# Altium footprint library STMicroelectronics.PcbLib: 7 footprints
Each footprint in its own frame and in the unit in brackets; x right, y up, seen from the top. Pads: shape width x height; smd on the part's side, far side on the other; paste and mask are expansions set on the pad; w line width, h text height; cw(c..) or ccw(c..) is an arc to the next point about the centre after c.
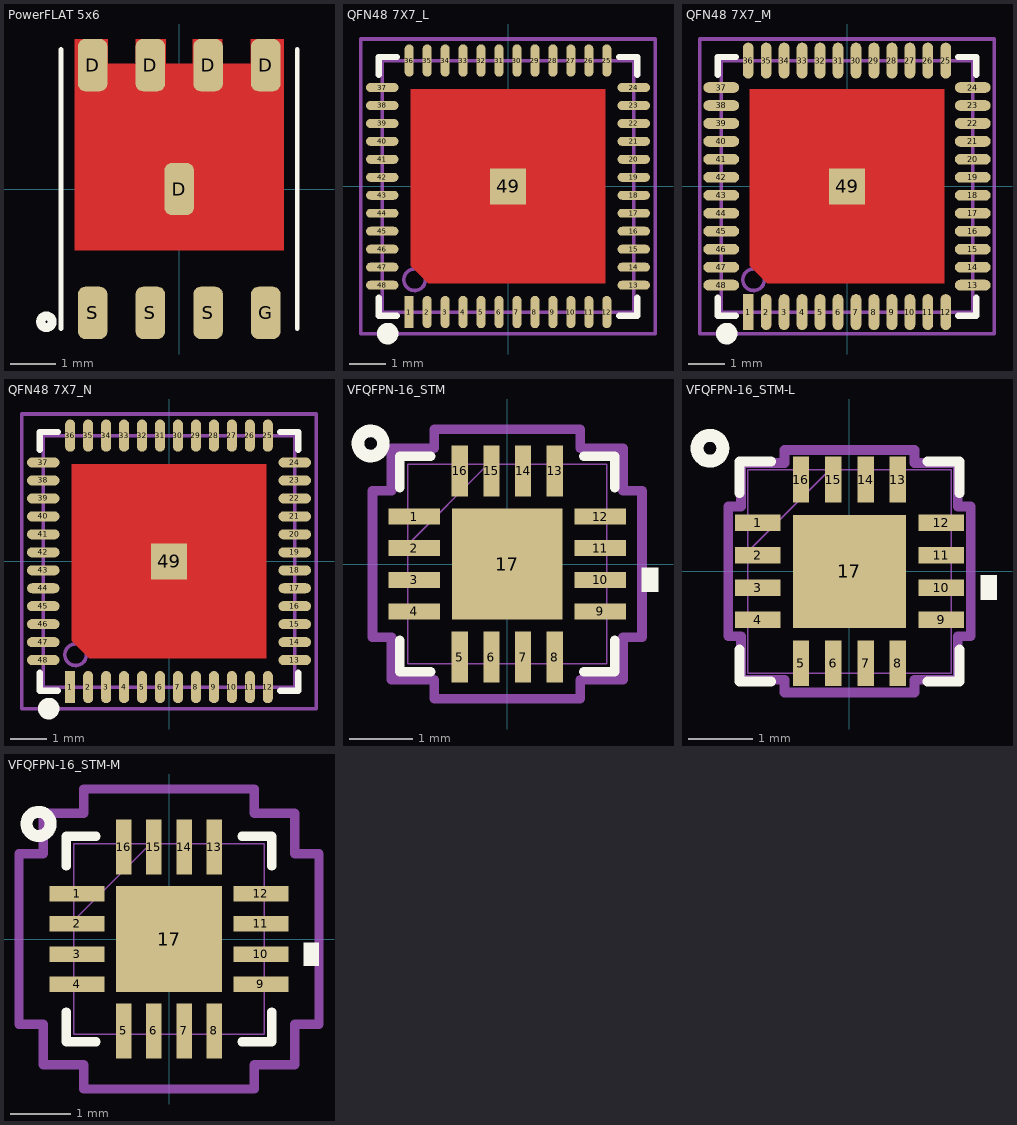
[diagram p0: the footprints below, top view; thin cyan lines are the x and y axes]

## PowerFLAT 5x6 [mm]
pads (9):
  rrect50% 0.65x1.15 smd: D(-1.905,2.725) D(-0.635,2.725) D(0,0) D(0.635,2.725) D(1.905,2.725) G(1.905,-2.725) S(-1.905,-2.725) S(-0.635,-2.725) S(0.635,-2.725)
Top Layer:
  region: -2.3,3.3 -2.3,-1.35 2.3,-1.35 2.3,3.3 1.575,3.3 1.575,2.75 0.95,2.75 0.95,3.3 0.3,3.3 0.3,2.75 -0.3,2.75 -0.3,3.3 -0.95,3.3 -0.95,2.75 -1.575,2.75 -1.575,3.3
Top Overlay:
  circle w0.2: c-2.921,-2.921 r0.127
  lines w0.1: -2.6,-3.075 -2.6,3.075 ; 2.6,-3.075 2.6,3.075
Top Solder:
  region: -2.3,3.3 -2.3,-1.35 2.3,-1.35 2.3,3.3 1.575,3.3 1.575,2.75 0.95,2.75 0.95,3.3 0.3,3.3 0.3,2.75 -0.3,2.75 -0.3,3.3 -0.95,3.3 -0.95,2.75 -1.575,2.75 -1.575,3.3
Mechanical 15:
  circle w0.05: c0,0 r0.35
  lines w0.05: -0.5,0 0.5,0 ; 0,-0.5 0,0.5
3D body "User Library-Power_Flat_5x6.STEP": height 0.95, standoff -0.04, extent -2.6,-3.075 2.6,3.075

## QFN48 7X7_L [mm] "48脚，长x宽x高：7x7x1mm，脚距：0.5mm"
pads (49):
  rect 0.25x0.9 smd: 1(-2.75,-3.5)
  oval 0.25x0.9 smd: 2(-2.25,-3.5) 3(-1.75,-3.5) 4(-1.25,-3.5) 5(-0.75,-3.5) 6(-0.25,-3.5) 7(0.25,-3.5) 8(0.75,-3.5) 9(1.25,-3.5) 10(1.75,-3.5) 11(2.25,-3.5) 12(2.75,-3.5) 25(2.75,3.5) 26(2.25,3.5) 27(1.75,3.5) 28(1.25,3.5) 29(0.75,3.5) 30(0.25,3.5) 31(-0.25,3.5) 32(-0.75,3.5) 33(-1.25,3.5) 34(-1.75,3.5) 35(-2.25,3.5) 36(-2.75,3.5)
  oval 0.9x0.25 smd: 13(3.5,-2.75) 14(3.5,-2.25) 15(3.5,-1.75) 16(3.5,-1.25) 17(3.5,-0.75) 18(3.5,-0.25) 19(3.5,0.25) 20(3.5,0.75) 21(3.5,1.25) 22(3.5,1.75) 23(3.5,2.25) 24(3.5,2.75) 37(-3.5,2.75) 38(-3.5,2.25) 39(-3.5,1.75) 40(-3.5,1.25) 41(-3.5,0.75) 42(-3.5,0.25) 43(-3.5,-0.25) 44(-3.5,-0.75) 45(-3.5,-1.25) 46(-3.5,-1.75) 47(-3.5,-2.25) 48(-3.5,-2.75)
  rect 1x1 smd mask+0.051: 49(0,0)
Top Layer:
  region: -2.7,2.7 2.7,2.7 2.7,-2.7 -2.214,-2.7 -2.7,-2.214
Top Overlay:
  circle w0.3: c-3.35,-4.1 r0.15
  lines w0.178: -3.6,-3.1 -3.6,-3.6 -3.1,-3.6 ; -3.6,3.1 -3.6,3.6 -3.1,3.6 ; 3.1,-3.6 3.6,-3.6 3.6,-3.1 ; 3.1,3.6 3.6,3.6 3.6,3.1
Mechanical 13:
  circle w0.1: c-2.6,-2.6 r0.3
  lines w0.1: -3.5,-3.5 3.5,-3.5 3.5,3.5 -3.5,3.5 -3.5,-3.5
Mechanical 15:
  circle w0.05: c0,0 r0.35
  lines w0.05: -0.5,0 0.5,0 ; 0,-0.5 0,0.5
  lines w0.1: -4.1,-4.1 -4.1,4.1 4.1,4.1 4.1,-4.1 -4.1,-4.1
3D body "QFN48-7X7.STEP": height 0.95, standoff -0.05, extent -3.51,-3.51 3.51,3.51

## QFN48 7X7_M [mm] "48脚，长x宽x高：7x7x1mm，脚距：0.5mm"
pads (49):
  rect 0.3x1 smd: 1(-2.75,-3.5)
  oval 0.3x1 smd: 2(-2.25,-3.5) 3(-1.75,-3.5) 4(-1.25,-3.5) 5(-0.75,-3.5) 6(-0.25,-3.5) 7(0.25,-3.5) 8(0.75,-3.5) 9(1.25,-3.5) 10(1.75,-3.5) 11(2.25,-3.5) 12(2.75,-3.5) 25(2.75,3.5) 26(2.25,3.5) 27(1.75,3.5) 28(1.25,3.5) 29(0.75,3.5) 30(0.25,3.5) 31(-0.25,3.5) 32(-0.75,3.5) 33(-1.25,3.5) 34(-1.75,3.5) 35(-2.25,3.5) 36(-2.75,3.5)
  oval 1x0.3 smd: 13(3.5,-2.75) 14(3.5,-2.25) 15(3.5,-1.75) 16(3.5,-1.25) 17(3.5,-0.75) 18(3.5,-0.25) 19(3.5,0.25) 20(3.5,0.75) 21(3.5,1.25) 22(3.5,1.75) 23(3.5,2.25) 24(3.5,2.75) 37(-3.5,2.75) 38(-3.5,2.25) 39(-3.5,1.75) 40(-3.5,1.25) 41(-3.5,0.75) 42(-3.5,0.25) 43(-3.5,-0.25) 44(-3.5,-0.75) 45(-3.5,-1.25) 46(-3.5,-1.75) 47(-3.5,-2.25) 48(-3.5,-2.75)
  rect 1x1 smd mask+0.051: 49(0,0)
Top Layer:
  region: -2.7,2.7 2.7,2.7 2.7,-2.7 -2.214,-2.7 -2.7,-2.214
Top Overlay:
  circle w0.3: c-3.35,-4.1 r0.15
  lines w0.178: -3.6,-3.1 -3.6,-3.6 -3.1,-3.6 ; -3.6,3.1 -3.6,3.6 -3.1,3.6 ; 3.1,-3.6 3.6,-3.6 3.6,-3.1 ; 3.1,3.6 3.6,3.6 3.6,3.1
Top Solder:
  region: -2.7,2.7 2.7,2.7 2.7,-2.7 -2.214,-2.7 -2.7,-2.214
Mechanical 13:
  circle w0.1: c-2.6,-2.6 r0.3
  lines w0.1: -3.5,-3.5 3.5,-3.5 3.5,3.5 -3.5,3.5 -3.5,-3.5
Mechanical 15:
  circle w0.05: c0,0 r0.35
  lines w0.05: -0.5,0 0.5,0 ; 0,-0.5 0,0.5
  lines w0.1: -4.1,-4.1 -4.1,4.1 4.1,4.1 4.1,-4.1 -4.1,-4.1
3D body "QFN48-7X7.STEP": height 0.95, standoff -0.05, extent -3.51,-3.51 3.51,3.51

## QFN48 7X7_N [mm] "48脚，长x宽x高：7x7x1mm，脚距：0.5mm"
pads (49):
  rect 0.28x0.9 smd: 1(-2.75,-3.5)
  oval 0.28x0.9 smd: 2(-2.25,-3.5) 3(-1.75,-3.5) 4(-1.25,-3.5) 5(-0.75,-3.5) 6(-0.25,-3.5) 7(0.25,-3.5) 8(0.75,-3.5) 9(1.25,-3.5) 10(1.75,-3.5) 11(2.25,-3.5) 12(2.75,-3.5) 25(2.75,3.5) 26(2.25,3.5) 27(1.75,3.5) 28(1.25,3.5) 29(0.75,3.5) 30(0.25,3.5) 31(-0.25,3.5) 32(-0.75,3.5) 33(-1.25,3.5) 34(-1.75,3.5) 35(-2.25,3.5) 36(-2.75,3.5)
  oval 0.9x0.28 smd: 13(3.5,-2.75) 14(3.5,-2.25) 15(3.5,-1.75) 16(3.5,-1.25) 17(3.5,-0.75) 18(3.5,-0.25) 19(3.5,0.25) 20(3.5,0.75) 21(3.5,1.25) 22(3.5,1.75) 23(3.5,2.25) 24(3.5,2.75) 37(-3.5,2.75) 38(-3.5,2.25) 39(-3.5,1.75) 40(-3.5,1.25) 41(-3.5,0.75) 42(-3.5,0.25) 43(-3.5,-0.25) 44(-3.5,-0.75) 45(-3.5,-1.25) 46(-3.5,-1.75) 47(-3.5,-2.25) 48(-3.5,-2.75)
  rect 1x1 smd mask+0.051: 49(0,0)
Top Layer:
  region: -2.7,2.7 2.7,2.7 2.7,-2.7 -2.214,-2.7 -2.7,-2.214
Top Overlay:
  circle w0.3: c-3.35,-4.1 r0.15
  lines w0.178: -3.6,-3.1 -3.6,-3.6 -3.1,-3.6 ; -3.6,3.1 -3.6,3.6 -3.1,3.6 ; 3.1,-3.6 3.6,-3.6 3.6,-3.1 ; 3.1,3.6 3.6,3.6 3.6,3.1
Mechanical 13:
  circle w0.1: c-2.6,-2.6 r0.3
  lines w0.1: -3.5,-3.5 3.5,-3.5 3.5,3.5 -3.5,3.5 -3.5,-3.5
Mechanical 15:
  circle w0.05: c0,0 r0.35
  lines w0.05: -0.5,0 0.5,0 ; 0,-0.5 0,0.5
  lines w0.1: -4.1,-4.1 -4.1,4.1 4.1,4.1 4.1,-4.1 -4.1,-4.1
3D body "QFN48-7X7.STEP": height 0.95, standoff -0.05, extent -3.51,-3.51 3.51,3.51

## VFQFPN-16_STM [mm]
pads (17):
  rect 0.808x0.255 smd: 1(-1.471,0.75) 2(-1.471,0.25) 3(-1.471,-0.25) 4(-1.471,-0.75) 9(1.471,-0.75) 10(1.471,-0.25) 11(1.471,0.25) 12(1.471,0.75)
  rect 0.255x0.808 smd: 5(-0.75,-1.471) 6(-0.25,-1.471) 7(0.25,-1.471) 8(0.75,-1.471) 13(0.75,1.471) 14(0.25,1.471) 15(-0.25,1.471) 16(-0.75,1.471)
  rect 1.753x1.753 smd: 17(0,0)
Top Overlay:
  circle w0.2: c-2.159,1.905 r0.2
  region: 2.129,-0.059 2.383,-0.059 2.383,-0.44 2.129,-0.44
  lines w0.152: -1.702,-1.21 -1.702,-1.702 -1.21,-1.702 ; -1.702,1.21 -1.702,1.702 -1.21,1.702 ; 1.21,-1.702 1.702,-1.702 1.702,-1.21 ; 1.21,1.702 1.702,1.702 1.702,1.21
Mechanical 13:
  lines w0.025: -1.575,0.305 -0.305,1.575 ; -1.575,-1.575 -1.575,1.575 1.575,1.575 1.575,-1.575 -1.575,-1.575
Mechanical 15:
  circle w0.05: c0,0 r0.35
  lines w0.05: -0.5,0 0.5,0 ; 0,-0.5 0,0.5
  lines w0.152: -2.129,-1.156 -2.129,1.156 -1.829,1.156 -1.829,1.829 -1.156,1.829 -1.156,2.129 1.156,2.129 1.156,1.829 1.829,1.829 1.829,1.156 2.129,1.156 2.129,-1.156 1.829,-1.156 1.829,-1.829 1.156,-1.829 1.156,-2.129 -1.156,-2.129 -1.156,-1.829 -1.829,-1.829 -1.829,-1.156 -2.129,-1.156
3D body: height 0.25, standoff 0, extent 0,0 0.254,0.254
3D body "VFQFPN-16_STM.step": height 0.94, standoff 0, extent -1.575,-1.575 1.575,1.575

## VFQFPN-16_STM-L [mm]
pads (17):
  rect 0.708x0.255 smd: 1(-1.421,0.75) 2(-1.421,0.25) 3(-1.421,-0.25) 4(-1.421,-0.75) 9(1.421,-0.75) 10(1.421,-0.25) 11(1.421,0.25) 12(1.421,0.75)
  rect 0.255x0.708 smd: 5(-0.75,-1.421) 6(-0.25,-1.421) 7(0.25,-1.421) 8(0.75,-1.421) 13(0.75,1.421) 14(0.25,1.421) 15(-0.25,1.421) 16(-0.75,1.421)
  rect 1.753x1.753 smd: 17(0,0)
Top Overlay:
  circle w0.2: c-2.159,1.905 r0.2
  region: 2.029,-0.059 2.283,-0.059 2.283,-0.44 2.029,-0.44
  lines w0.152: -1.702,-1.21 -1.702,-1.702 -1.21,-1.702 ; -1.702,1.21 -1.702,1.702 -1.21,1.702 ; 1.21,-1.702 1.702,-1.702 1.702,-1.21 ; 1.21,1.702 1.702,1.702 1.702,1.21
Mechanical 13:
  lines w0.025: -1.575,0.305 -0.305,1.575 ; -1.575,-1.575 -1.575,1.575 1.575,1.575 1.575,-1.575 -1.575,-1.575
Mechanical 15:
  circle w0.05: c0,0 r0.35
  lines w0.05: -0.5,0 0.5,0 ; 0,-0.5 0,0.5
  lines w0.152: -1.876,-1.004 -1.876,1.004 -1.676,1.004 -1.676,1.676 -1.004,1.676 -1.004,1.876 1.004,1.876 1.004,1.676 1.676,1.676 1.676,1.004 1.876,1.004 1.876,-1.004 1.676,-1.004 1.676,-1.676 1.004,-1.676 1.004,-1.876 -1.004,-1.876 -1.004,-1.676 -1.676,-1.676 -1.676,-1.004 -1.876,-1.004
3D body: height 0.25, standoff 0, extent 0,0 0.254,0.254
3D body "VFQFPN-16_STM.step": height 0.94, standoff 0, extent -1.575,-1.575 1.575,1.575

## VFQFPN-16_STM-M [mm]
pads (17):
  rect 0.908x0.255 smd: 1(-1.521,0.75) 2(-1.521,0.25) 3(-1.521,-0.25) 4(-1.521,-0.75) 9(1.521,-0.75) 10(1.521,-0.25) 11(1.521,0.25) 12(1.521,0.75)
  rect 0.255x0.908 smd: 5(-0.75,-1.521) 6(-0.25,-1.521) 7(0.25,-1.521) 8(0.75,-1.521) 13(0.75,1.521) 14(0.25,1.521) 15(-0.25,1.521) 16(-0.75,1.521)
  rect 1.753x1.753 smd: 17(0,0)
Top Overlay:
  circle w0.2: c-2.159,1.905 r0.2
  region: 2.229,-0.059 2.483,-0.059 2.483,-0.44 2.229,-0.44
  lines w0.152: -1.702,-1.21 -1.702,-1.702 -1.21,-1.702 ; -1.702,1.21 -1.702,1.702 -1.21,1.702 ; 1.21,-1.702 1.702,-1.702 1.702,-1.21 ; 1.21,1.702 1.702,1.702 1.702,1.21
Mechanical 13:
  lines w0.025: -1.575,0.305 -0.305,1.575 ; -1.575,-1.575 -1.575,1.575 1.575,1.575 1.575,-1.575 -1.575,-1.575
Mechanical 15:
  circle w0.05: c0,0 r0.35
  lines w0.05: -0.5,0 0.5,0 ; 0,-0.5 0,0.5
  lines w0.152: -2.483,-1.41 -2.483,1.41 -2.083,1.41 -2.083,2.083 -1.41,2.083 -1.41,2.483 1.41,2.483 1.41,2.083 2.083,2.083 2.083,1.41 2.483,1.41 2.483,-1.41 2.083,-1.41 2.083,-2.083 1.41,-2.083 1.41,-2.483 -1.41,-2.483 -1.41,-2.083 -2.083,-2.083 -2.083,-1.41 -2.483,-1.41
3D body: height 0.25, standoff 0, extent 0,0 0.254,0.254
3D body "VFQFPN-16_STM.step": height 0.94, standoff 0, extent -1.575,-1.575 1.575,1.575